# Altium footprint library Footprint-Lib-KEM.PcbLib: 13 footprints
Each footprint in its own frame and in the unit in brackets; x right, y up, seen from the top. Pads: shape width x height; smd on the part's side, far side on the other; paste and mask are expansions set on the pad; w line width, h text height; cw(c..) or ccw(c..) is an arc to the next point about the centre after c.
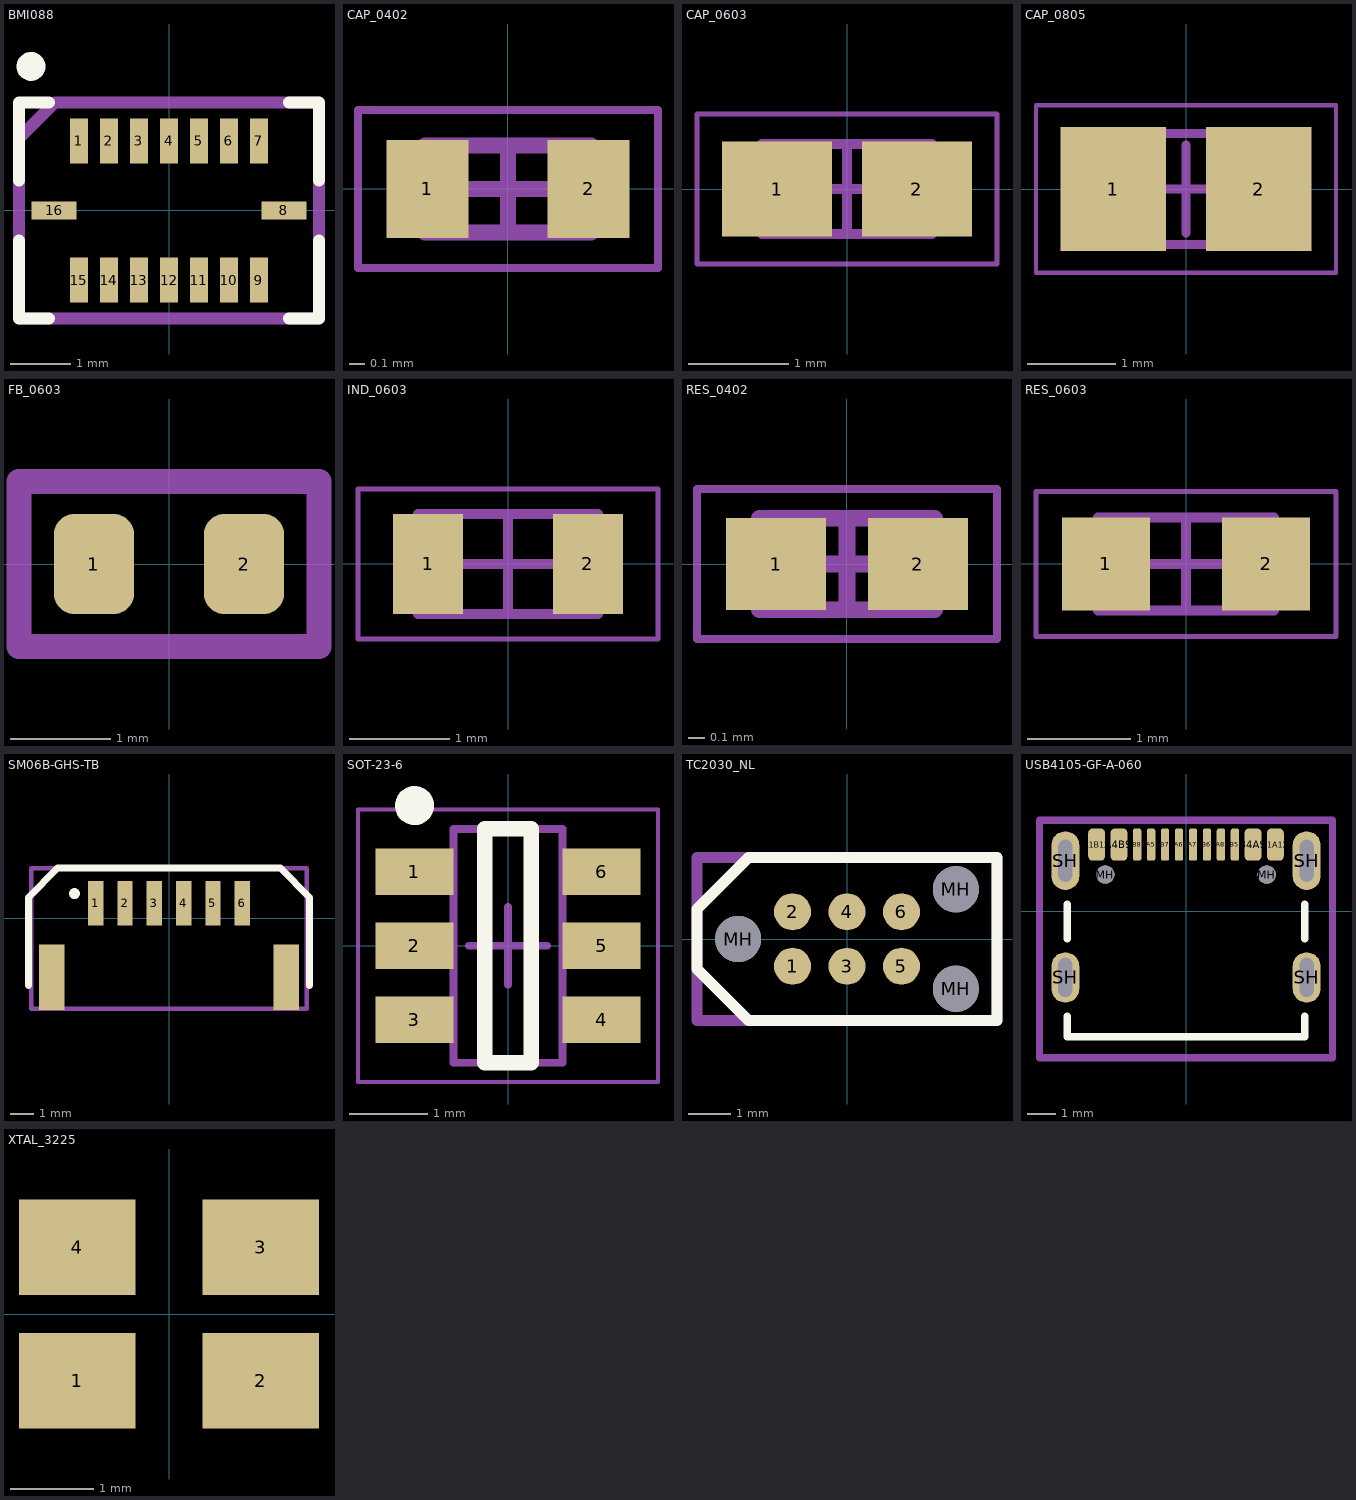
[diagram p0: the footprints below, top view; thin cyan lines are the x and y axes]

## BMI088 [mm]
pads (16):
  rect 0.3x0.75 smd: 1(-1.5,1.16) 2(-1,1.16) 3(-0.5,1.16) 4(0,1.16) 5(0.5,1.16) 6(1,1.16) 7(1.5,1.16) 9(1.5,-1.16) 10(1,-1.16) 11(0.5,-1.16) 12(0,-1.16) 13(-0.5,-1.16) 14(-1,-1.16) 15(-1.5,-1.16)
  rect 0.75x0.3 smd: 8(1.915,0) 16(-1.915,0)
Top Overlay:
  circle w0.254: c-2.3,2.4 r0.114
  lines w0.2: -2.5,-0.5 -2.5,-1.8 -2,-1.8 ; -2.5,0.5 -2.5,1.8 -2,1.8 ; 2,-1.8 2.5,-1.8 2.5,-0.5 ; 2,1.8 2.5,1.8 2.5,0.5
Mechanical 13:
  lines w0.2: -2.5,-1.8 -2.5,1.2 -1.9,1.8 2.5,1.8 2.5,-1.8 -2.5,-1.8
3D body "BMI088.STEP": height 1.01, standoff 0.01, extent -2.25,-1.5 2.25,1.5

## CAP_0402 [mm] "Chip Capacitor, 2-Leads, Body 1.00x0.50mm, IPC Medium Density"
height 0.55
pads (2):
  rect 0.52x0.62 smd: 1(-0.51,0) 2(0.51,0)
Mechanical 13:
  lines w0.1: -0.525,-0.275 -0.525,0.275 0.525,0.275 0.525,-0.275 -0.525,-0.275
Mechanical 15:
  lines w0.05: -0.95,-0.5 -0.95,0.5 0.95,0.5 0.95,-0.5 -0.95,-0.5
  lines w0.1: -0.275,0 0.275,0 ; 0,-0.275 0,0.275
3D body "Chip2PinSM127P600-8N.step": height 0.55, standoff 0, extent -0.525,-0.275 0.525,0.275

## CAP_0603 [mm] "Chip Capacitor, 2-Leads, Body 1.60x0.80mm, IPC Medium Density"
height 0.9
pads (2):
  rect 1.1x0.95 smd: 1(-0.7,0) 2(0.7,0)
Mechanical 13:
  lines w0.1: -0.85,-0.45 -0.85,0.45 0.85,0.45 0.85,-0.45 -0.85,-0.45
Mechanical 15:
  lines w0.05: -1.5,-0.75 -1.5,0.75 1.5,0.75 1.5,-0.75 -1.5,-0.75
  lines w0.1: -0.45,0 0.45,0 ; 0,-0.45 0,0.45
3D body "CAP_0603.step": height 0.9, standoff 0, extent -0.85,-0.45 0.85,0.45

## CAP_0805 [mm] "Chip Capacitor, 2-Leads, Body 2.00x1.25mm, IPC Medium Density"
height 1.35
pads (2):
  rect 1.2x1.4 smd: 1(-0.825,0) 2(0.825,0)
Mechanical 13:
  lines w0.1: -1.01,-0.63 -1.01,0.63 1.01,0.63 1.01,-0.63 -1.01,-0.63
Mechanical 15:
  lines w0.05: -1.7,-0.95 -1.7,0.95 1.7,0.95 1.7,-0.95 -1.7,-0.95
  lines w0.1: -0.5,0 0.5,0 ; 0,-0.5 0,0.5
3D body "CAP_0805.step": height 1.35, standoff 0, extent -1.01,-0.63 1.01,0.63

## FB_0603 [mm]
pads (2):
  rrect50% 0.8x1 smd: 1(-0.75,0) 2(0.75,0)
Mechanical 1:
  lines w0.254: -1.5,-0.825 -1.5,0.825 1.5,0.825 1.5,-0.825 -1.5,-0.825
3D body "FB-0603.STEP": height 0.81, standoff 0.01, extent -0.8,-0.4 0.8,0.4

## IND_0603 [mm] "Chip Inductor, 2-Leads, Body 1.60x0.80mm, IPC Medium Density"
height 1
pads (2):
  rect 0.7x1 smd: 1(-0.8,0) 2(0.8,0)
Mechanical 13:
  lines w0.1: -0.9,-0.5 0.9,-0.5 0.9,0.5 -0.9,0.5 -0.9,-0.5
Mechanical 15:
  lines w0.05: -1.5,-0.75 1.5,-0.75 1.5,0.75 -1.5,0.75 -1.5,-0.75
  lines w0.1: -0.5,0 0.5,0 ; 0,-0.5 0,0.5
3D body "IND_0603.step": height 1, standoff 0, extent -0.9,-0.5 0.9,0.5

## RES_0402 [mm] "Chip Resistor, 2-Leads, Body 1.00x0.50mm, IPC Medium Density"
height 0.4
pads (2):
  rect 0.6x0.55 smd: 1(-0.425,0) 2(0.425,0)
Mechanical 13:
  lines w0.1: -0.525,-0.275 -0.525,0.275 0.525,0.275 0.525,-0.275 -0.525,-0.275
Mechanical 15:
  lines w0.05: -0.9,-0.45 -0.9,0.45 0.9,0.45 0.9,-0.45 -0.9,-0.45
  lines w0.1: -0.275,0 0.275,0 ; 0,-0.275 0,0.275
3D body "RES_0402.step": height 0.4, standoff 0, extent -0.525,-0.275 0.525,0.275

## RES_0603 [mm] "Chip Resistor, 2-Leads, Body 1.60x0.80mm, IPC Medium Density"
height 0.55
pads (2):
  rect 0.85x0.9 smd: 1(-0.775,0) 2(0.775,0)
Mechanical 13:
  lines w0.1: -0.85,-0.45 -0.85,0.45 0.85,0.45 0.85,-0.45 -0.85,-0.45
Mechanical 15:
  lines w0.05: -1.45,-0.7 -1.45,0.7 1.45,0.7 1.45,-0.7 -1.45,-0.7
  lines w0.1: -0.45,0 0.45,0 ; 0,-0.45 0,0.45
3D body "RES_0603.step": height 0.55, standoff 0, extent -0.85,-0.45 0.85,0.45

## SM06B-GHS-TB [mm] "Header Connector 6 Position 1.25MM Pitch SMD Horizontal JST GH"
pads (8):
  rect 0.65x1.9 smd: 1(-3.125,0.65) 2(-1.875,0.65) 3(-0.625,0.65) 4(0.625,0.65) 5(1.875,0.65) 6(3.125,0.65)
  rect 1.1x2.8 smd: ""(-5,-2.5) ""(5,-2.5)
Top Overlay:
  circle w0.254: c-4.035,1.063 r0.103
  lines w0.3: -6,-2.85 -6,0.9 -4.75,2.15 4.75,2.15 6,0.9 6,-2.85
Mechanical 13:
  lines w0.2: -5.875,-3.85 5.875,-3.85 5.875,2.15 -5.875,2.15 -5.875,-1.85 -5.875,-3.85
3D body "SM06B-GHS-TB.STEP": height 4.26, standoff 0.01, extent -5.375,-3.5 5.375,1.35

## SOT-23-6 [mm] "SOT23, 6-Leads, Body 2.90x2.45mm, Pitch 0.95mm, IPC Medium Density"
height 1.1
pads (6):
  rect 1x0.6 smd: 1(-1.2,0.95) 2(-1.2,0) 3(-1.2,-0.95) 4(1.2,-0.95) 5(1.2,0) 6(1.2,0.95)
Top Overlay:
  circle w0.25: c-1.2,1.8 r0.125
  lines w0.2: -0.3,-1.5 0.3,-1.5 0.3,1.5 -0.3,1.5 -0.3,-1.5
Mechanical 13:
  lines w0.1: -0.7,-1.5 -0.7,1.5 0.7,1.5 0.7,-1.5 -0.7,-1.5
Mechanical 15:
  lines w0.05: -1.925,-1.75 -1.925,1.75 1.925,1.75 1.925,-1.75 -1.925,-1.75
  lines w0.1: -0.5,0 0.5,0 ; 0,-0.5 0,0.5
3D body "SOT-23-6.step": height 1.1, standoff 0, extent -1.3,-1.5 1.3,1.5

## TC2030_NL [mm]
pads (9):
  round 0.863 smd: 1(-1.27,-0.635) 2(-1.27,0.635) 3(0,-0.635) 4(0,0.635) 5(1.27,-0.635) 6(1.27,0.635)
  round 1.076 hole 1.076 unplated: MH(-2.54,0) MH(2.54,-1.16) MH(2.54,1.16)
Top Overlay:
  lines w0.254: -3.5,-0.7 -3.5,0.7 -2.3,1.9 3.5,1.9 3.5,-1.9 -2.3,-1.9 -3.5,-0.7
Mechanical 1:
  lines w0.254: -3.5,-1.9 -3.5,1.9 3.5,1.9 3.5,-1.9 -3.5,-1.9

## USB4105-GF-A-060 [mm]
pads (18):
  rrect50% 0.6x1.15 smd mask+0.05: A1B12(-3.2,2.378) A4B9(-2.4,2.378) B1A12(3.2,2.378) B4A9(2.4,2.378)
  rrect50% 0.3x1.15 smd mask+0.05: A5(-1.25,2.378) A6(-0.25,2.378) A7(0.25,2.378) A8(1.25,2.378) B5(1.75,2.378) B6(0.75,2.378) B7(-0.75,2.378) B8(-1.75,2.378)
  round 0.65 hole 0.65 unplated: MH(-2.89,1.303) MH(2.89,1.303)
  oval 1x1.8 hole 0.5 slot 1.4 at 90 deg: SH(-4.32,-2.377) SH(4.32,-2.377)
  oval 1x2.1 hole 0.5 slot 1.5 at 90 deg: SH(-4.32,1.803) SH(4.32,1.803)
Top Overlay:
  lines w0.254: -4.25,-3.75 -4.25,-4.5 4.25,-4.5 4.25,-3.75 ; -4.25,-1 -4.25,0.25 ; 4.25,-1 4.25,0.25
Mechanical 13:
  lines w0.254: -5.25,-5.25 5.25,-5.25 5.25,3.25 -5.25,3.25 -5.25,-5.25
3D body "USB4105-GF-A.STEP": height 3.31, standoff -1.1, extent -4.47,-5 4.47,2.71

## XTAL_3225 [mm]
pads (4):
  rect 1.4x1.15 smd: 1(-1.1,-0.8) 2(1.1,-0.8) 3(1.1,0.8) 4(-1.1,0.8)
3D body "Y3225.step": height 0.61, standoff 0, extent -1.6,-1.275 1.6,1.225